# Altium schematic symbol library WE-SPXO.SchLib: 254 symbols (part 2 of 5)
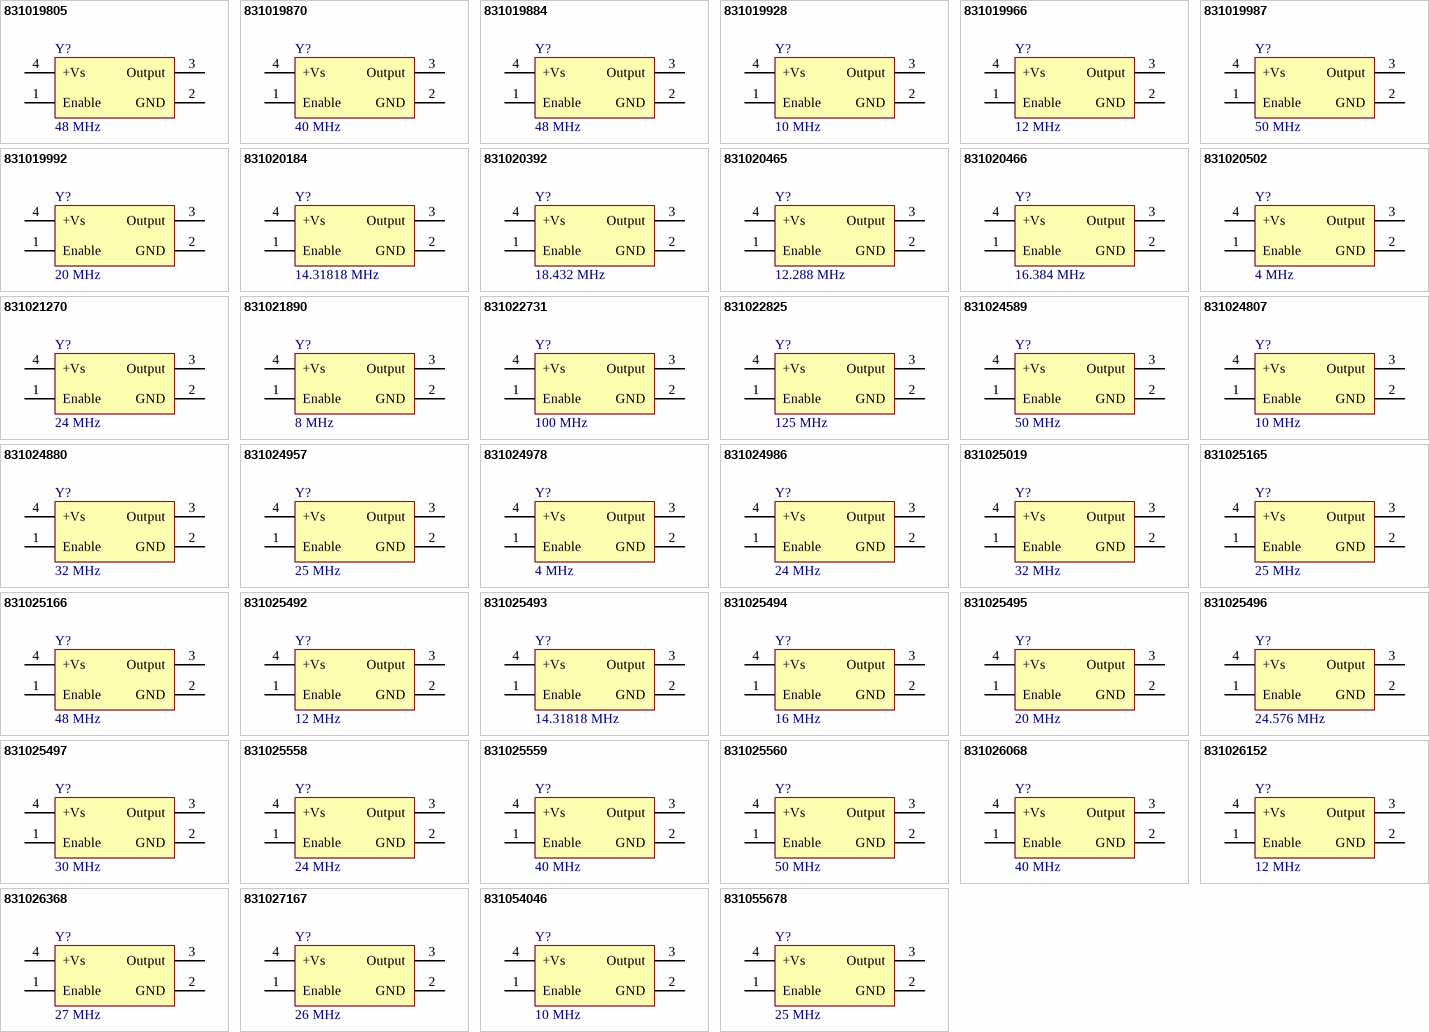
[diagram p7: symbols 831019805 to 831055678]

## 831024880
designator Y?, comment 32 MHz
WE-SPXO Simple Packaged Quartz Oscillator, CFPS-9, 32 MHz, 50 ppm, 3.3 V; Manufacturer Part Number: 831024880; Manufacturer: Wurth Elektronik; Frequency Stability: 50 ppm; Output Logic: CMOS; Supply Voltage: 3.3 V; Category: Oscillators; Match Code: WE-SPXO; ComponentLink1Description: Website Link; ComponentLink1URL: https://www.we-online.com/redexpert/article/831024880?ad; ComponentLink2Description: Datasheet Link; ComponentLink2URL: https://www.we-online.com/redexpert/spec/831024880?ad; Mount: Surface Mount; Min Operating Temperature: -40 °C; Max Operating Temperature: 85 °C; Packaging: Tape and Reel; Case/Size Code: CFPS-9; Length: 5 mm; Width: 3.2 mm; Height: 1.3 mm; Application: Processor, Bluetooth; Frequency: 32 MHz
footprint WE-SPXO_CFPS-9
pins: 1 Enable, 2 GND, 3 Output, 4 +Vs

## 831024957
designator Y?, comment 25 MHz
WE-SPXO Simple Packaged Quartz Oscillator, CFPS-9, 25 MHz, 50 ppm, 3.3 V; Manufacturer Part Number: 831024957; Manufacturer: Wurth Elektronik; Frequency Stability: 50 ppm; Output Logic: CMOS; Supply Voltage: 3.3 V; Category: Oscillators; Match Code: WE-SPXO; ComponentLink1Description: Website Link; ComponentLink1URL: https://www.we-online.com/redexpert/article/831024957?ad; ComponentLink2Description: Datasheet Link; ComponentLink2URL: https://www.we-online.com/redexpert/spec/831024957?ad; Mount: Surface Mount; Min Operating Temperature: -40 °C; Max Operating Temperature: 85 °C; Packaging: Tape and Reel; Case/Size Code: CFPS-9; Length: 5 mm; Width: 3.2 mm; Height: 1.3 mm; Application: Processor, USB, 3G/4G/5G, Ethernet, Small Cell, PHY, PCI Express; Frequency: 25 MHz
footprint WE-SPXO_CFPS-9
pins: 1 Enable, 2 GND, 3 Output, 4 +Vs

## 831024978
designator Y?, comment 4 MHz
WE-SPXO Simple Packaged Quartz Oscillator, CFPS-9, 4 MHz, 50 ppm, 3.3 V; Manufacturer Part Number: 831024978; Manufacturer: Wurth Elektronik; Frequency Stability: 50 ppm; Output Logic: CMOS; Supply Voltage: 3.3 V; Category: Oscillators; Match Code: WE-SPXO; ComponentLink1Description: Website Link; ComponentLink1URL: https://www.we-online.com/redexpert/article/831024978?ad; ComponentLink2Description: Datasheet Link; ComponentLink2URL: https://www.we-online.com/redexpert/spec/831024978?ad; Mount: Surface Mount; Min Operating Temperature: -40 °C; Max Operating Temperature: 85 °C; Packaging: Tape and Reel; Case/Size Code: CFPS-9; Length: 5 mm; Width: 3.2 mm; Height: 1.3 mm; Application: CAN, Processor; Frequency: 4 MHz
footprint WE-SPXO_CFPS-9
pins: 1 Enable, 2 GND, 3 Output, 4 +Vs

## 831024986
designator Y?, comment 24 MHz
WE-SPXO Simple Packaged Quartz Oscillator, CFPS-9, 24 MHz, 50 ppm, 3.3 V; Manufacturer Part Number: 831024986; Manufacturer: Wurth Elektronik; Frequency Stability: 50 ppm; Output Logic: CMOS; Supply Voltage: 3.3 V; Category: Oscillators; Match Code: WE-SPXO; ComponentLink1Description: Website Link; ComponentLink1URL: https://www.we-online.com/redexpert/article/831024986?ad; ComponentLink2Description: Datasheet Link; ComponentLink2URL: https://www.we-online.com/redexpert/spec/831024986?ad; Mount: Surface Mount; Min Operating Temperature: -40 °C; Max Operating Temperature: 85 °C; Packaging: Tape and Reel; Case/Size Code: CFPS-9; Length: 5 mm; Width: 3.2 mm; Height: 1.3 mm; Application: Processor, USB, Bluetooth; Frequency: 24 MHz
footprint WE-SPXO_CFPS-9
pins: 1 Enable, 2 GND, 3 Output, 4 +Vs

## 831025019
designator Y?, comment 32 MHz
WE-SPXO Simple Packaged Quartz Oscillator, CFPS-39, 32 MHz, 50 ppm, 3.3 V; Manufacturer Part Number: 831025019; Manufacturer: Wurth Elektronik; Frequency Stability: 50 ppm; Output Logic: CMOS; Supply Voltage: 3.3 V; Category: Oscillators; Match Code: WE-SPXO; ComponentLink1Description: Website Link; ComponentLink1URL: https://www.we-online.com/redexpert/article/831025019?ad; ComponentLink2Description: Datasheet Link; ComponentLink2URL: https://www.we-online.com/redexpert/spec/831025019?ad; Mount: Surface Mount; Min Operating Temperature: -40 °C; Max Operating Temperature: 85 °C; Packaging: Tape and Reel; Case/Size Code: CFPS-39; Length: 3.2 mm; Width: 2.5 mm; Height: 1.2 mm; Application: Processor, Bluetooth; Frequency: 32 MHz
footprint WE-SPXO_CFPS-39
pins: 1 Enable, 2 GND, 3 Output, 4 +Vs

## 831025165
designator Y?, comment 25 MHz
WE-SPXO Simple Packaged Quartz Oscillator, CFPS-39, 25 MHz, 50 ppm, 3.3 V; Manufacturer Part Number: 831025165; Manufacturer: Wurth Elektronik; Frequency Stability: 50 ppm; Output Logic: CMOS; Supply Voltage: 3.3 V; Category: Oscillators; Match Code: WE-SPXO; ComponentLink1Description: Website Link; ComponentLink1URL: https://www.we-online.com/redexpert/article/831025165?ad; ComponentLink2Description: Datasheet Link; ComponentLink2URL: https://www.we-online.com/redexpert/spec/831025165?ad; Mount: Surface Mount; Min Operating Temperature: -40 °C; Max Operating Temperature: 85 °C; Packaging: Tape and Reel; Case/Size Code: CFPS-39; Length: 3.2 mm; Width: 2.5 mm; Height: 1.2 mm; Application: Processor, USB, 3G/4G/5G, Ethernet, Small Cell, PHY, PCI Express; Frequency: 25 MHz
footprint WE-SPXO_CFPS-39
pins: 1 Enable, 2 GND, 3 Output, 4 +Vs

## 831025166
designator Y?, comment 48 MHz
WE-SPXO Simple Packaged Quartz Oscillator, CFPS-39, 48 MHz, 50 ppm, 3.3 V; Manufacturer Part Number: 831025166; Manufacturer: Wurth Elektronik; Frequency Stability: 50 ppm; Output Logic: CMOS; Supply Voltage: 3.3 V; Category: Oscillators; Match Code: WE-SPXO; ComponentLink1Description: Website Link; ComponentLink1URL: https://www.we-online.com/redexpert/article/831025166?ad; ComponentLink2Description: Datasheet Link; ComponentLink2URL: https://www.we-online.com/redexpert/spec/831025166?ad; Mount: Surface Mount; Min Operating Temperature: -40 °C; Max Operating Temperature: 85 °C; Packaging: Tape and Reel; Case/Size Code: CFPS-39; Length: 3.2 mm; Width: 2.5 mm; Height: 1.2 mm; Application: Processor, USB, Wi-Fi; Frequency: 48 MHz
footprint WE-SPXO_CFPS-39
pins: 1 Enable, 2 GND, 3 Output, 4 +Vs

## 831025492
designator Y?, comment 12 MHz
WE-SPXO Simple Packaged Quartz Oscillator, CFPS-39, 12 MHz, 50 ppm, 3.3 V; Manufacturer Part Number: 831025492; Manufacturer: Wurth Elektronik; Frequency Stability: 50 ppm; Output Logic: CMOS; Supply Voltage: 3.3 V; Category: Oscillators; Match Code: WE-SPXO; ComponentLink1Description: Website Link; ComponentLink1URL: https://www.we-online.com/redexpert/article/831025492?ad; ComponentLink2Description: Datasheet Link; ComponentLink2URL: https://www.we-online.com/redexpert/spec/831025492?ad; Mount: Surface Mount; Min Operating Temperature: -40 °C; Max Operating Temperature: 85 °C; Packaging: Tape and Reel; Case/Size Code: CFPS-39; Length: 3.2 mm; Width: 2.5 mm; Height: 1.2 mm; Application: Processor, USB, CAN; Frequency: 12 MHz
footprint WE-SPXO_CFPS-39
pins: 1 Enable, 2 GND, 3 Output, 4 +Vs

## 831025493
designator Y?, comment 14.31818 MHz
WE-SPXO Simple Packaged Quartz Oscillator, CFPS-39, 14.31818 MHz, 50 ppm, 3.3 V; Manufacturer Part Number: 831025493; Manufacturer: Wurth Elektronik; Frequency Stability: 50 ppm; Output Logic: CMOS; Supply Voltage: 3.3 V; Category: Oscillators; Match Code: WE-SPXO; ComponentLink1Description: Website Link; ComponentLink1URL: https://www.we-online.com/redexpert/article/831025493?ad; ComponentLink2Description: Datasheet Link; ComponentLink2URL: https://www.we-online.com/redexpert/spec/831025493?ad; Mount: Surface Mount; Min Operating Temperature: -40 °C; Max Operating Temperature: 85 °C; Packaging: Tape and Reel; Case/Size Code: CFPS-39; Length: 3.2 mm; Width: 2.5 mm; Height: 1.2 mm; Application: Processor; Frequency: 14.31818 MHz
footprint WE-SPXO_CFPS-39
pins: 1 Enable, 2 GND, 3 Output, 4 +Vs

## 831025494
designator Y?, comment 16 MHz
WE-SPXO Simple Packaged Quartz Oscillator, CFPS-39, 16 MHz, 50 ppm, 3.3 V; Manufacturer Part Number: 831025494; Manufacturer: Wurth Elektronik; Frequency Stability: 50 ppm; Output Logic: CMOS; Supply Voltage: 3.3 V; Category: Oscillators; Match Code: WE-SPXO; ComponentLink1Description: Website Link; ComponentLink1URL: https://www.we-online.com/redexpert/article/831025494?ad; ComponentLink2Description: Datasheet Link; ComponentLink2URL: https://www.we-online.com/redexpert/spec/831025494?ad; Mount: Surface Mount; Min Operating Temperature: -40 °C; Max Operating Temperature: 85 °C; Packaging: Tape and Reel; Case/Size Code: CFPS-39; Length: 3.2 mm; Width: 2.5 mm; Height: 1.2 mm; Application: Processor, CAN, Bluetooth; Frequency: 16 MHz
footprint WE-SPXO_CFPS-39
pins: 1 Enable, 2 GND, 3 Output, 4 +Vs

## 831025495
designator Y?, comment 20 MHz
WE-SPXO Simple Packaged Quartz Oscillator, CFPS-39, 20 MHz, 50 ppm, 3.3 V; Manufacturer Part Number: 831025495; Manufacturer: Wurth Elektronik; Frequency Stability: 50 ppm; Output Logic: CMOS; Supply Voltage: 3.3 V; Category: Oscillators; Match Code: WE-SPXO; ComponentLink1Description: Website Link; ComponentLink1URL: https://www.we-online.com/redexpert/article/831025495?ad; ComponentLink2Description: Datasheet Link; ComponentLink2URL: https://www.we-online.com/redexpert/spec/831025495?ad; Mount: Surface Mount; Min Operating Temperature: -40 °C; Max Operating Temperature: 85 °C; Packaging: Tape and Reel; Case/Size Code: CFPS-39; Length: 3.2 mm; Width: 2.5 mm; Height: 1.2 mm; Application: Processor, CAN, USB, Ethernet, Wi-Fi; Frequency: 20 MHz
footprint WE-SPXO_CFPS-39
pins: 1 Enable, 2 GND, 3 Output, 4 +Vs

## 831025496
designator Y?, comment 24.576 MHz
WE-SPXO Simple Packaged Quartz Oscillator, CFPS-39, 24.576 MHz, 50 ppm, 3.3 V; Manufacturer Part Number: 831025496; Manufacturer: Wurth Elektronik; Frequency Stability: 50 ppm; Output Logic: CMOS; Supply Voltage: 3.3 V; Category: Oscillators; Match Code: WE-SPXO; ComponentLink1Description: Website Link; ComponentLink1URL: https://www.we-online.com/redexpert/article/831025496?ad; ComponentLink2Description: Datasheet Link; ComponentLink2URL: https://www.we-online.com/redexpert/spec/831025496?ad; Mount: Surface Mount; Min Operating Temperature: -40 °C; Max Operating Temperature: 85 °C; Packaging: Tape and Reel; Case/Size Code: CFPS-39; Length: 3.2 mm; Width: 2.5 mm; Height: 1.2 mm; Application: UART, Audio; Frequency: 24.576 MHz
footprint WE-SPXO_CFPS-39
pins: 1 Enable, 2 GND, 3 Output, 4 +Vs

## 831025497
designator Y?, comment 30 MHz
WE-SPXO Simple Packaged Quartz Oscillator, CFPS-39, 30 MHz, 50 ppm, 3.3 V; Manufacturer Part Number: 831025497; Manufacturer: Wurth Elektronik; Frequency Stability: 50 ppm; Output Logic: CMOS; Supply Voltage: 3.3 V; Category: Oscillators; Match Code: WE-SPXO; ComponentLink1Description: Website Link; ComponentLink1URL: https://www.we-online.com/redexpert/article/831025497?ad; ComponentLink2Description: Datasheet Link; ComponentLink2URL: https://www.we-online.com/redexpert/spec/831025497?ad; Mount: Surface Mount; Min Operating Temperature: -40 °C; Max Operating Temperature: 85 °C; Packaging: Tape and Reel; Case/Size Code: CFPS-39; Length: 3.2 mm; Width: 2.5 mm; Height: 1.2 mm; Application: Processor, USB; Frequency: 30 MHz
footprint WE-SPXO_CFPS-39
pins: 1 Enable, 2 GND, 3 Output, 4 +Vs

## 831025558
designator Y?, comment 24 MHz
WE-SPXO Simple Packaged Quartz Oscillator, CFPS-39, 24 MHz, 50 ppm, 3.3 V; Manufacturer Part Number: 831025558; Manufacturer: Wurth Elektronik; Frequency Stability: 50 ppm; Output Logic: CMOS; Supply Voltage: 3.3 V; Category: Oscillators; Match Code: WE-SPXO; ComponentLink1Description: Website Link; ComponentLink1URL: https://www.we-online.com/redexpert/article/831025558?ad; ComponentLink2Description: Datasheet Link; ComponentLink2URL: https://www.we-online.com/redexpert/spec/831025558?ad; Mount: Surface Mount; Min Operating Temperature: -40 °C; Max Operating Temperature: 85 °C; Packaging: Tape and Reel; Case/Size Code: CFPS-39; Length: 3.2 mm; Width: 2.5 mm; Height: 1.2 mm; Application: Processor, USB, Bluetooth; Frequency: 24 MHz
footprint WE-SPXO_CFPS-39
pins: 1 Enable, 2 GND, 3 Output, 4 +Vs

## 831025559
designator Y?, comment 40 MHz
WE-SPXO Simple Packaged Quartz Oscillator, CFPS-39, 40 MHz, 50 ppm, 3.3 V; Manufacturer Part Number: 831025559; Manufacturer: Wurth Elektronik; Frequency Stability: 50 ppm; Output Logic: CMOS; Supply Voltage: 3.3 V; Category: Oscillators; Match Code: WE-SPXO; ComponentLink1Description: Website Link; ComponentLink1URL: https://www.we-online.com/redexpert/article/831025559?ad; ComponentLink2Description: Datasheet Link; ComponentLink2URL: https://www.we-online.com/redexpert/spec/831025559?ad; Mount: Surface Mount; Min Operating Temperature: -40 °C; Max Operating Temperature: 85 °C; Packaging: Tape and Reel; Case/Size Code: CFPS-39; Length: 3.2 mm; Width: 2.5 mm; Height: 1.2 mm; Application: Processor, USB, 3G/4G/5G, CAN, Wi-Fi; Frequency: 40 MHz
footprint WE-SPXO_CFPS-39
pins: 1 Enable, 2 GND, 3 Output, 4 +Vs

## 831025560
designator Y?, comment 50 MHz
WE-SPXO Simple Packaged Quartz Oscillator, CFPS-39, 50 MHz, 50 ppm, 3.3 V; Manufacturer Part Number: 831025560; Manufacturer: Wurth Elektronik; Frequency Stability: 50 ppm; Output Logic: CMOS; Supply Voltage: 3.3 V; Category: Oscillators; Match Code: WE-SPXO; ComponentLink1Description: Website Link; ComponentLink1URL: https://www.we-online.com/redexpert/article/831025560?ad; ComponentLink2Description: Datasheet Link; ComponentLink2URL: https://www.we-online.com/redexpert/spec/831025560?ad; Mount: Surface Mount; Min Operating Temperature: -40 °C; Max Operating Temperature: 85 °C; Packaging: Tape and Reel; Case/Size Code: CFPS-39; Length: 3.2 mm; Width: 2.5 mm; Height: 1.2 mm; Application: Processor, Ethernet, PCI Express, PHY; Frequency: 50 MHz
footprint WE-SPXO_CFPS-39
pins: 1 Enable, 2 GND, 3 Output, 4 +Vs

## 831026068
designator Y?, comment 40 MHz
WE-SPXO Simple Packaged Quartz Oscillator, CFPS-9, 40 MHz, 50 ppm, 3.3 V; Manufacturer Part Number: 831026068; Manufacturer: Wurth Elektronik; Frequency Stability: 50 ppm; Output Logic: CMOS; Supply Voltage: 3.3 V; Category: Oscillators; Match Code: WE-SPXO; ComponentLink1Description: Website Link; ComponentLink1URL: https://www.we-online.com/redexpert/article/831026068?ad; ComponentLink2Description: Datasheet Link; ComponentLink2URL: https://www.we-online.com/redexpert/spec/831026068?ad; Mount: Surface Mount; Min Operating Temperature: -40 °C; Max Operating Temperature: 85 °C; Packaging: Tape and Reel; Case/Size Code: CFPS-9; Length: 5 mm; Width: 3.2 mm; Height: 1.3 mm; Application: Processor, USB, 3G/4G/5G, CAN, Wi-Fi; Frequency: 40 MHz
footprint WE-SPXO_CFPS-9
pins: 1 Enable, 2 GND, 3 Output, 4 +Vs

## 831026152
designator Y?, comment 12 MHz
WE-SPXO Simple Packaged Quartz Oscillator, CFPS-9, 12 MHz, 50 ppm, 3.3 V; Manufacturer Part Number: 831026152; Manufacturer: Wurth Elektronik; Frequency Stability: 50 ppm; Output Logic: CMOS; Supply Voltage: 3.3 V; Category: Oscillators; Match Code: WE-SPXO; ComponentLink1Description: Website Link; ComponentLink1URL: https://www.we-online.com/redexpert/article/831026152?ad; ComponentLink2Description: Datasheet Link; ComponentLink2URL: https://www.we-online.com/redexpert/spec/831026152?ad; Mount: Surface Mount; Min Operating Temperature: -40 °C; Max Operating Temperature: 85 °C; Packaging: Tape and Reel; Case/Size Code: CFPS-9; Length: 5 mm; Width: 3.2 mm; Height: 1.3 mm; Application: Processor, USB, CAN; Frequency: 12 MHz
footprint WE-SPXO_CFPS-9
pins: 1 Enable, 2 GND, 3 Output, 4 +Vs

## 831026368
designator Y?, comment 27 MHz
WE-SPXO Simple Packaged Quartz Oscillator, CFPS-39, 27 MHz, 50 ppm, 3.3 V; Manufacturer Part Number: 831026368; Manufacturer: Wurth Elektronik; Frequency Stability: 50 ppm; Output Logic: CMOS; Supply Voltage: 3.3 V; Category: Oscillators; Match Code: WE-SPXO; ComponentLink1Description: Website Link; ComponentLink1URL: https://www.we-online.com/redexpert/article/831026368?ad; ComponentLink2Description: Datasheet Link; ComponentLink2URL: https://www.we-online.com/redexpert/spec/831026368?ad; Mount: Surface Mount; Min Operating Temperature: -40 °C; Max Operating Temperature: 85 °C; Packaging: Tape and Reel; Case/Size Code: CFPS-39; Length: 3.2 mm; Width: 2.5 mm; Height: 1.2 mm; Application: Processor; Frequency: 27 MHz
footprint WE-SPXO_CFPS-39
pins: 1 Enable, 2 GND, 3 Output, 4 +Vs

## 831027167
designator Y?, comment 26 MHz
WE-SPXO Simple Packaged Quartz Oscillator, CFPS-39, 26 MHz, 50 ppm, 3.3 V; Manufacturer Part Number: 831027167; Manufacturer: Wurth Elektronik; Frequency Stability: 50 ppm; Output Logic: CMOS; Supply Voltage: 3.3 V; Category: Oscillators; Match Code: WE-SPXO; ComponentLink1Description: Website Link; ComponentLink1URL: https://www.we-online.com/redexpert/article/831027167?ad; ComponentLink2Description: Datasheet Link; ComponentLink2URL: https://www.we-online.com/redexpert/spec/831027167?ad; Mount: Surface Mount; Min Operating Temperature: -40 °C; Max Operating Temperature: 85 °C; Packaging: Tape and Reel; Case/Size Code: CFPS-39; Length: 3.2 mm; Width: 2.5 mm; Height: 1.2 mm; Application: CAN, Bluetooth, GPS, Small Cell; Frequency: 26 MHz
footprint WE-SPXO_CFPS-39
pins: 1 Enable, 2 GND, 3 Output, 4 +Vs

## 831054046
designator Y?, comment 10 MHz
WE-SPXO Simple Packaged Quartz Oscillator, IQXO-540, 10 MHz, 50 ppm, 3.3 V; Manufacturer Part Number: 831054046; Manufacturer: Wurth Elektronik; Frequency Stability: 50 ppm; Output Logic: CMOS; Supply Voltage: 3.3 V; Category: Oscillators; Match Code: WE-SPXO; ComponentLink1Description: Website Link; ComponentLink1URL: https://www.we-online.com/redexpert/article/831054046?ad; ComponentLink2Description: Datasheet Link; ComponentLink2URL: https://www.we-online.com/redexpert/spec/831054046?ad; Mount: Surface Mount; Min Operating Temperature: -40 °C; Max Operating Temperature: 85 °C; Packaging: Tape and Reel; Case/Size Code: IQXO-540; Length: 2 mm; Width: 1.6 mm; Height: 0.8 mm; Application: Processor, Ethernet; Frequency: 10 MHz
footprint WE-SPXO_IQXO-540
pins: 1 Enable, 2 GND, 3 Output, 4 +Vs

## 831055678
designator Y?, comment 25 MHz
WE-SPXO Simple Packaged Quartz Oscillator, CFPS-39, 25 MHz, 25 ppm, 3.3 V; Manufacturer Part Number: 831055678; Manufacturer: Wurth Elektronik; Frequency Stability: 25 ppm; Output Logic: CMOS; Supply Voltage: 3.3 V; Category: Oscillators; Match Code: WE-SPXO; ComponentLink1Description: Website Link; ComponentLink1URL: https://www.we-online.com/redexpert/article/831055678?ad; ComponentLink2Description: Datasheet Link; ComponentLink2URL: https://www.we-online.com/redexpert/spec/831055678?ad; Mount: Surface Mount; Min Operating Temperature: -40 °C; Max Operating Temperature: 85 °C; Packaging: Tape and Reel; Case/Size Code: CFPS-39; Length: 3.2 mm; Width: 2.5 mm; Height: 1.2 mm; Application: Processor, USB, 3G/4G/5G, Ethernet, Small Cell, PHY, PCI Express; Frequency: 25 MHz
footprint WE-SPXO_CFPS-39
pins: 1 Enable, 2 GND, 3 Output, 4 +Vs

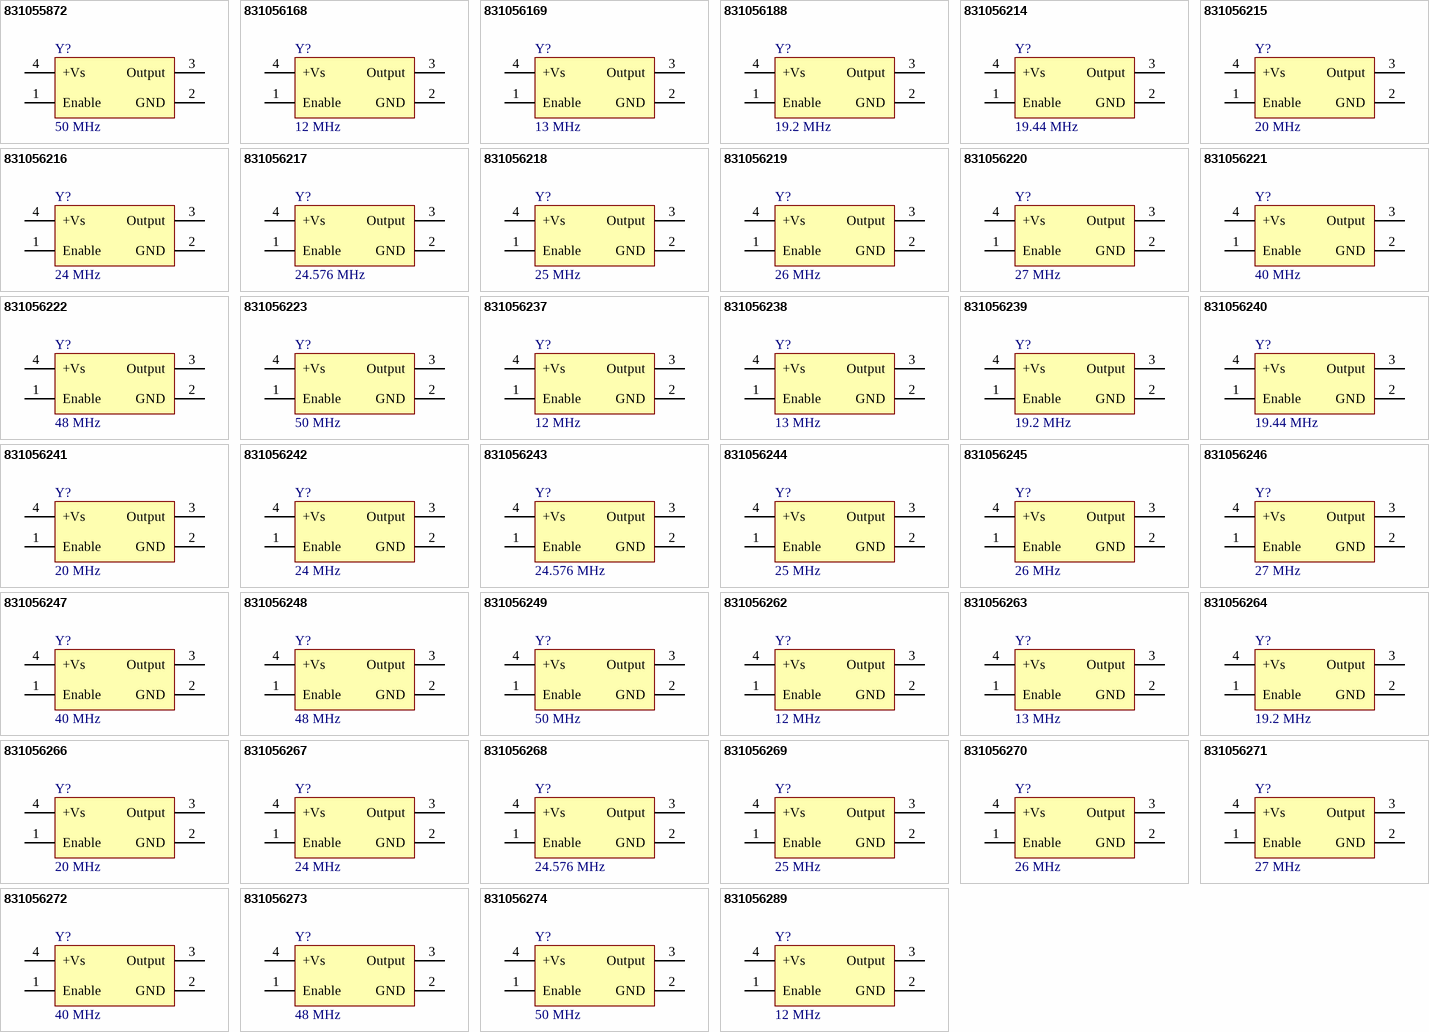
[diagram p2: symbols 831055872 to 831056289]

## 831055872
designator Y?, comment 50 MHz
WE-SPXO Simple Packaged Quartz Oscillator, CFPS-39, 50 MHz, 25 ppm, 3.3 V; Manufacturer Part Number: 831055872; Manufacturer: Wurth Elektronik; Frequency Stability: 25 ppm; Output Logic: CMOS; Supply Voltage: 3.3 V; Category: Oscillators; Match Code: WE-SPXO; ComponentLink1Description: Website Link; ComponentLink1URL: https://www.we-online.com/redexpert/article/831055872?ad; ComponentLink2Description: Datasheet Link; ComponentLink2URL: https://www.we-online.com/redexpert/spec/831055872?ad; Mount: Surface Mount; Min Operating Temperature: -40 °C; Max Operating Temperature: 85 °C; Packaging: Tape and Reel; Case/Size Code: CFPS-39; Length: 3.2 mm; Width: 2.5 mm; Height: 1.2 mm; Application: Processor, Ethernet, PCI Express, PHY; Frequency: 50 MHz
footprint WE-SPXO_CFPS-39
pins: 1 Enable, 2 GND, 3 Output, 4 +Vs

## 831056168
designator Y?, comment 12 MHz
WE-SPXO Simple Packaged Quartz Oscillator, IQXO-542, 12 MHz, 50 ppm, 1.8 V; Manufacturer Part Number: 831056168; Manufacturer: Wurth Elektronik; Frequency Stability: 50 ppm; Output Logic: CMOS; Supply Voltage: 1.8 V; Category: Oscillators; Match Code: WE-SPXO; ComponentLink1Description: Website Link; ComponentLink1URL: https://www.we-online.com/redexpert/article/831056168?ad; ComponentLink2Description: Datasheet Link; ComponentLink2URL: https://www.we-online.com/redexpert/spec/831056168?ad; Mount: Surface Mount; Min Operating Temperature: -40 °C; Max Operating Temperature: 85 °C; Packaging: Tape and Reel; Case/Size Code: IQXO-542; Length: 2 mm; Width: 1.6 mm; Height: 0.8 mm; Application: Processor, USB, CAN; Frequency: 12 MHz
footprint WE-SPXO_IQXO-542
pins: 1 Enable, 2 GND, 3 Output, 4 +Vs

## 831056169
designator Y?, comment 13 MHz
WE-SPXO Simple Packaged Quartz Oscillator, IQXO-542, 13 MHz, 50 ppm, 1.8 V; Manufacturer Part Number: 831056169; Manufacturer: Wurth Elektronik; Frequency Stability: 50 ppm; Output Logic: CMOS; Supply Voltage: 1.8 V; Category: Oscillators; Match Code: WE-SPXO; ComponentLink1Description: Website Link; ComponentLink1URL: https://www.we-online.com/redexpert/article/831056169?ad; ComponentLink2Description: Datasheet Link; ComponentLink2URL: https://www.we-online.com/redexpert/spec/831056169?ad; Mount: Surface Mount; Min Operating Temperature: -40 °C; Max Operating Temperature: 85 °C; Packaging: Tape and Reel; Case/Size Code: IQXO-542; Length: 2 mm; Width: 1.6 mm; Height: 0.8 mm; Application: Processor; Frequency: 13 MHz
footprint WE-SPXO_IQXO-542
pins: 1 Enable, 2 GND, 3 Output, 4 +Vs

## 831056188
designator Y?, comment 19.2 MHz
WE-SPXO Simple Packaged Quartz Oscillator, IQXO-542, 19.2 MHz, 50 ppm, 1.8 V; Manufacturer Part Number: 831056188; Manufacturer: Wurth Elektronik; Frequency Stability: 50 ppm; Output Logic: CMOS; Supply Voltage: 1.8 V; Category: Oscillators; Match Code: WE-SPXO; ComponentLink1Description: Website Link; ComponentLink1URL: https://www.we-online.com/redexpert/article/831056188?ad; ComponentLink2Description: Datasheet Link; ComponentLink2URL: https://www.we-online.com/redexpert/spec/831056188?ad; Mount: Surface Mount; Min Operating Temperature: -40 °C; Max Operating Temperature: 85 °C; Packaging: Tape and Reel; Case/Size Code: IQXO-542; Length: 2 mm; Width: 1.6 mm; Height: 0.8 mm; Application: UART, 3G/4G/5G, Small Cell; Frequency: 19.2 MHz
footprint WE-SPXO_IQXO-542
pins: 1 Enable, 2 GND, 3 Output, 4 +Vs

## 831056214
designator Y?, comment 19.44 MHz
WE-SPXO Simple Packaged Quartz Oscillator, IQXO-542, 19.44 MHz, 50 ppm, 1.8 V; Manufacturer Part Number: 831056214; Manufacturer: Wurth Elektronik; Frequency Stability: 50 ppm; Output Logic: CMOS; Supply Voltage: 1.8 V; Category: Oscillators; Match Code: WE-SPXO; ComponentLink1Description: Website Link; ComponentLink1URL: https://www.we-online.com/redexpert/article/831056214?ad; ComponentLink2Description: Datasheet Link; ComponentLink2URL: https://www.we-online.com/redexpert/spec/831056214?ad; Mount: Surface Mount; Min Operating Temperature: -40 °C; Max Operating Temperature: 85 °C; Packaging: Tape and Reel; Case/Size Code: IQXO-542; Length: 2 mm; Width: 1.6 mm; Height: 0.8 mm; Application: Bluetooth; Frequency: 19.44 MHz
footprint WE-SPXO_IQXO-542
pins: 1 Enable, 2 GND, 3 Output, 4 +Vs

## 831056215
designator Y?, comment 20 MHz
WE-SPXO Simple Packaged Quartz Oscillator, IQXO-542, 20 MHz, 50 ppm, 1.8 V; Manufacturer Part Number: 831056215; Manufacturer: Wurth Elektronik; Frequency Stability: 50 ppm; Output Logic: CMOS; Supply Voltage: 1.8 V; Category: Oscillators; Match Code: WE-SPXO; ComponentLink1Description: Website Link; ComponentLink1URL: https://www.we-online.com/redexpert/article/831056215?ad; ComponentLink2Description: Datasheet Link; ComponentLink2URL: https://www.we-online.com/redexpert/spec/831056215?ad; Mount: Surface Mount; Min Operating Temperature: -40 °C; Max Operating Temperature: 85 °C; Packaging: Tape and Reel; Case/Size Code: IQXO-542; Length: 2 mm; Width: 1.6 mm; Height: 0.8 mm; Application: Processor, CAN, USB, Ethernet, Wi-Fi; Frequency: 20 MHz
footprint WE-SPXO_IQXO-542
pins: 1 Enable, 2 GND, 3 Output, 4 +Vs

## 831056216
designator Y?, comment 24 MHz
WE-SPXO Simple Packaged Quartz Oscillator, IQXO-542, 24 MHz, 50 ppm, 1.8 V; Manufacturer Part Number: 831056216; Manufacturer: Wurth Elektronik; Frequency Stability: 50 ppm; Output Logic: CMOS; Supply Voltage: 1.8 V; Category: Oscillators; Match Code: WE-SPXO; ComponentLink1Description: Website Link; ComponentLink1URL: https://www.we-online.com/redexpert/article/831056216?ad; ComponentLink2Description: Datasheet Link; ComponentLink2URL: https://www.we-online.com/redexpert/spec/831056216?ad; Mount: Surface Mount; Min Operating Temperature: -40 °C; Max Operating Temperature: 85 °C; Packaging: Tape and Reel; Case/Size Code: IQXO-542; Length: 2 mm; Width: 1.6 mm; Height: 0.8 mm; Application: Processor, USB, Bluetooth; Frequency: 24 MHz
footprint WE-SPXO_IQXO-542
pins: 1 Enable, 2 GND, 3 Output, 4 +Vs

## 831056217
designator Y?, comment 24.576 MHz
WE-SPXO Simple Packaged Quartz Oscillator, IQXO-542, 24.576 MHz, 50 ppm, 1.8 V; Manufacturer Part Number: 831056217; Manufacturer: Wurth Elektronik; Frequency Stability: 50 ppm; Output Logic: CMOS; Supply Voltage: 1.8 V; Category: Oscillators; Match Code: WE-SPXO; ComponentLink1Description: Website Link; ComponentLink1URL: https://www.we-online.com/redexpert/article/831056217?ad; ComponentLink2Description: Datasheet Link; ComponentLink2URL: https://www.we-online.com/redexpert/spec/831056217?ad; Mount: Surface Mount; Min Operating Temperature: -40 °C; Max Operating Temperature: 85 °C; Packaging: Tape and Reel; Case/Size Code: IQXO-542; Length: 2 mm; Width: 1.6 mm; Height: 0.8 mm; Application: UART, Audio; Frequency: 24.576 MHz
footprint WE-SPXO_IQXO-542
pins: 1 Enable, 2 GND, 3 Output, 4 +Vs

## 831056218
designator Y?, comment 25 MHz
WE-SPXO Simple Packaged Quartz Oscillator, IQXO-542, 25 MHz, 50 ppm, 1.8 V; Manufacturer Part Number: 831056218; Manufacturer: Wurth Elektronik; Frequency Stability: 50 ppm; Output Logic: CMOS; Supply Voltage: 1.8 V; Category: Oscillators; Match Code: WE-SPXO; ComponentLink1Description: Website Link; ComponentLink1URL: https://www.we-online.com/redexpert/article/831056218?ad; ComponentLink2Description: Datasheet Link; ComponentLink2URL: https://www.we-online.com/redexpert/spec/831056218?ad; Mount: Surface Mount; Min Operating Temperature: -40 °C; Max Operating Temperature: 85 °C; Packaging: Tape and Reel; Case/Size Code: IQXO-542; Length: 2 mm; Width: 1.6 mm; Height: 0.8 mm; Application: Processor, USB, 3G/4G/5G, Ethernet, Small Cell, PHY, PCI Express; Frequency: 25 MHz
footprint WE-SPXO_IQXO-542
pins: 1 Enable, 2 GND, 3 Output, 4 +Vs

## 831056219
designator Y?, comment 26 MHz
WE-SPXO Simple Packaged Quartz Oscillator, IQXO-542, 26 MHz, 50 ppm, 1.8 V; Manufacturer Part Number: 831056219; Manufacturer: Wurth Elektronik; Frequency Stability: 50 ppm; Output Logic: CMOS; Supply Voltage: 1.8 V; Category: Oscillators; Match Code: WE-SPXO; ComponentLink1Description: Website Link; ComponentLink1URL: https://www.we-online.com/redexpert/article/831056219?ad; ComponentLink2Description: Datasheet Link; ComponentLink2URL: https://www.we-online.com/redexpert/spec/831056219?ad; Mount: Surface Mount; Min Operating Temperature: -40 °C; Max Operating Temperature: 85 °C; Packaging: Tape and Reel; Case/Size Code: IQXO-542; Length: 2 mm; Width: 1.6 mm; Height: 0.8 mm; Application: CAN, Bluetooth, GPS, Small Cell; Frequency: 26 MHz
footprint WE-SPXO_IQXO-542
pins: 1 Enable, 2 GND, 3 Output, 4 +Vs

## 831056220
designator Y?, comment 27 MHz
WE-SPXO Simple Packaged Quartz Oscillator, IQXO-542, 27 MHz, 50 ppm, 1.8 V; Manufacturer Part Number: 831056220; Manufacturer: Wurth Elektronik; Frequency Stability: 50 ppm; Output Logic: CMOS; Supply Voltage: 1.8 V; Category: Oscillators; Match Code: WE-SPXO; ComponentLink1Description: Website Link; ComponentLink1URL: https://www.we-online.com/redexpert/article/831056220?ad; ComponentLink2Description: Datasheet Link; ComponentLink2URL: https://www.we-online.com/redexpert/spec/831056220?ad; Mount: Surface Mount; Min Operating Temperature: -40 °C; Max Operating Temperature: 85 °C; Packaging: Tape and Reel; Case/Size Code: IQXO-542; Length: 2 mm; Width: 1.6 mm; Height: 0.8 mm; Application: Processor; Frequency: 27 MHz
footprint WE-SPXO_IQXO-542
pins: 1 Enable, 2 GND, 3 Output, 4 +Vs

## 831056221
designator Y?, comment 40 MHz
WE-SPXO Simple Packaged Quartz Oscillator, IQXO-542, 40 MHz, 50 ppm, 1.8 V; Manufacturer Part Number: 831056221; Manufacturer: Wurth Elektronik; Frequency Stability: 50 ppm; Output Logic: CMOS; Supply Voltage: 1.8 V; Category: Oscillators; Match Code: WE-SPXO; ComponentLink1Description: Website Link; ComponentLink1URL: https://www.we-online.com/redexpert/article/831056221?ad; ComponentLink2Description: Datasheet Link; ComponentLink2URL: https://www.we-online.com/redexpert/spec/831056221?ad; Mount: Surface Mount; Min Operating Temperature: -40 °C; Max Operating Temperature: 85 °C; Packaging: Tape and Reel; Case/Size Code: IQXO-542; Length: 2 mm; Width: 1.6 mm; Height: 0.8 mm; Application: Processor, USB, 3G/4G/5G, CAN, Wi-Fi; Frequency: 40 MHz
footprint WE-SPXO_IQXO-542
pins: 1 Enable, 2 GND, 3 Output, 4 +Vs

## 831056222
designator Y?, comment 48 MHz
WE-SPXO Simple Packaged Quartz Oscillator, IQXO-542, 48 MHz, 50 ppm, 1.8 V; Manufacturer Part Number: 831056222; Manufacturer: Wurth Elektronik; Frequency Stability: 50 ppm; Output Logic: CMOS; Supply Voltage: 1.8 V; Category: Oscillators; Match Code: WE-SPXO; ComponentLink1Description: Website Link; ComponentLink1URL: https://www.we-online.com/redexpert/article/831056222?ad; ComponentLink2Description: Datasheet Link; ComponentLink2URL: https://www.we-online.com/redexpert/spec/831056222?ad; Mount: Surface Mount; Min Operating Temperature: -40 °C; Max Operating Temperature: 85 °C; Packaging: Tape and Reel; Case/Size Code: IQXO-542; Length: 2 mm; Width: 1.6 mm; Height: 0.8 mm; Application: Processor, USB, Wi-Fi; Frequency: 48 MHz
footprint WE-SPXO_IQXO-542
pins: 1 Enable, 2 GND, 3 Output, 4 +Vs

## 831056223
designator Y?, comment 50 MHz
WE-SPXO Simple Packaged Quartz Oscillator, IQXO-542, 50 MHz, 50 ppm, 1.8 V; Manufacturer Part Number: 831056223; Manufacturer: Wurth Elektronik; Frequency Stability: 50 ppm; Output Logic: CMOS; Supply Voltage: 1.8 V; Category: Oscillators; Match Code: WE-SPXO; ComponentLink1Description: Website Link; ComponentLink1URL: https://www.we-online.com/redexpert/article/831056223?ad; ComponentLink2Description: Datasheet Link; ComponentLink2URL: https://www.we-online.com/redexpert/spec/831056223?ad; Mount: Surface Mount; Min Operating Temperature: -40 °C; Max Operating Temperature: 85 °C; Packaging: Tape and Reel; Case/Size Code: IQXO-542; Length: 2 mm; Width: 1.6 mm; Height: 0.8 mm; Application: Processor, Ethernet, PCI Express, PHY; Frequency: 50 MHz
footprint WE-SPXO_IQXO-542
pins: 1 Enable, 2 GND, 3 Output, 4 +Vs

## 831056237
designator Y?, comment 12 MHz
WE-SPXO Simple Packaged Quartz Oscillator, IQXO-540, 12 MHz, 50 ppm, 3.3 V; Manufacturer Part Number: 831056237; Manufacturer: Wurth Elektronik; Frequency Stability: 50 ppm; Output Logic: CMOS; Supply Voltage: 3.3 V; Category: Oscillators; Match Code: WE-SPXO; ComponentLink1Description: Website Link; ComponentLink1URL: https://www.we-online.com/redexpert/article/831056237?ad; ComponentLink2Description: Datasheet Link; ComponentLink2URL: https://www.we-online.com/redexpert/spec/831056237?ad; Mount: Surface Mount; Min Operating Temperature: -40 °C; Max Operating Temperature: 85 °C; Packaging: Tape and Reel; Case/Size Code: IQXO-540; Length: 2 mm; Width: 1.6 mm; Height: 0.8 mm; Application: Processor, USB, CAN; Frequency: 12 MHz
footprint WE-SPXO_IQXO-540
pins: 1 Enable, 2 GND, 3 Output, 4 +Vs

## 831056238
designator Y?, comment 13 MHz
WE-SPXO Simple Packaged Quartz Oscillator, IQXO-540, 13 MHz, 50 ppm, 3.3 V; Manufacturer Part Number: 831056238; Manufacturer: Wurth Elektronik; Frequency Stability: 50 ppm; Output Logic: CMOS; Supply Voltage: 3.3 V; Category: Oscillators; Match Code: WE-SPXO; ComponentLink1Description: Website Link; ComponentLink1URL: https://www.we-online.com/redexpert/article/831056238?ad; ComponentLink2Description: Datasheet Link; ComponentLink2URL: https://www.we-online.com/redexpert/spec/831056238?ad; Mount: Surface Mount; Min Operating Temperature: -40 °C; Max Operating Temperature: 85 °C; Packaging: Tape and Reel; Case/Size Code: IQXO-540; Length: 2 mm; Width: 1.6 mm; Height: 0.8 mm; Application: Processor; Frequency: 13 MHz
footprint WE-SPXO_IQXO-540
pins: 1 Enable, 2 GND, 3 Output, 4 +Vs

## 831056239
designator Y?, comment 19.2 MHz
WE-SPXO Simple Packaged Quartz Oscillator, IQXO-540, 19.2 MHz, 50 ppm, 3.3 V; Manufacturer Part Number: 831056239; Manufacturer: Wurth Elektronik; Frequency Stability: 50 ppm; Output Logic: CMOS; Supply Voltage: 3.3 V; Category: Oscillators; Match Code: WE-SPXO; ComponentLink1Description: Website Link; ComponentLink1URL: https://www.we-online.com/redexpert/article/831056239?ad; ComponentLink2Description: Datasheet Link; ComponentLink2URL: https://www.we-online.com/redexpert/spec/831056239?ad; Mount: Surface Mount; Min Operating Temperature: -40 °C; Max Operating Temperature: 85 °C; Packaging: Tape and Reel; Case/Size Code: IQXO-540; Length: 2 mm; Width: 1.6 mm; Height: 0.8 mm; Application: UART, 3G/4G/5G, Small Cell; Frequency: 19.2 MHz
footprint WE-SPXO_IQXO-540
pins: 1 Enable, 2 GND, 3 Output, 4 +Vs

## 831056240
designator Y?, comment 19.44 MHz
WE-SPXO Simple Packaged Quartz Oscillator, IQXO-540, 19.44 MHz, 50 ppm, 3.3 V; Manufacturer Part Number: 831056240; Manufacturer: Wurth Elektronik; Frequency Stability: 50 ppm; Output Logic: CMOS; Supply Voltage: 3.3 V; Category: Oscillators; Match Code: WE-SPXO; ComponentLink1Description: Website Link; ComponentLink1URL: https://www.we-online.com/redexpert/article/831056240?ad; ComponentLink2Description: Datasheet Link; ComponentLink2URL: https://www.we-online.com/redexpert/spec/831056240?ad; Mount: Surface Mount; Min Operating Temperature: -40 °C; Max Operating Temperature: 85 °C; Packaging: Tape and Reel; Case/Size Code: IQXO-540; Length: 2 mm; Width: 1.6 mm; Height: 0.8 mm; Application: Bluetooth; Frequency: 19.44 MHz
footprint WE-SPXO_IQXO-540
pins: 1 Enable, 2 GND, 3 Output, 4 +Vs

## 831056241
designator Y?, comment 20 MHz
WE-SPXO Simple Packaged Quartz Oscillator, IQXO-540, 20 MHz, 50 ppm, 3.3 V; Manufacturer Part Number: 831056241; Manufacturer: Wurth Elektronik; Frequency Stability: 50 ppm; Output Logic: CMOS; Supply Voltage: 3.3 V; Category: Oscillators; Match Code: WE-SPXO; ComponentLink1Description: Website Link; ComponentLink1URL: https://www.we-online.com/redexpert/article/831056241?ad; ComponentLink2Description: Datasheet Link; ComponentLink2URL: https://www.we-online.com/redexpert/spec/831056241?ad; Mount: Surface Mount; Min Operating Temperature: -40 °C; Max Operating Temperature: 85 °C; Packaging: Tape and Reel; Case/Size Code: IQXO-540; Length: 2 mm; Width: 1.6 mm; Height: 0.8 mm; Application: Processor, CAN, USB, Ethernet, Wi-Fi; Frequency: 20 MHz
footprint WE-SPXO_IQXO-540
pins: 1 Enable, 2 GND, 3 Output, 4 +Vs

## 831056242
designator Y?, comment 24 MHz
WE-SPXO Simple Packaged Quartz Oscillator, IQXO-540, 24 MHz, 50 ppm, 3.3 V; Manufacturer Part Number: 831056242; Manufacturer: Wurth Elektronik; Frequency Stability: 50 ppm; Output Logic: CMOS; Supply Voltage: 3.3 V; Category: Oscillators; Match Code: WE-SPXO; ComponentLink1Description: Website Link; ComponentLink1URL: https://www.we-online.com/redexpert/article/831056242?ad; ComponentLink2Description: Datasheet Link; ComponentLink2URL: https://www.we-online.com/redexpert/spec/831056242?ad; Mount: Surface Mount; Min Operating Temperature: -40 °C; Max Operating Temperature: 85 °C; Packaging: Tape and Reel; Case/Size Code: IQXO-540; Length: 2 mm; Width: 1.6 mm; Height: 0.8 mm; Application: Processor, USB, Bluetooth; Frequency: 24 MHz
footprint WE-SPXO_IQXO-540
pins: 1 Enable, 2 GND, 3 Output, 4 +Vs

## 831056243
designator Y?, comment 24.576 MHz
WE-SPXO Simple Packaged Quartz Oscillator, IQXO-540, 24.576 MHz, 50 ppm, 3.3 V; Manufacturer Part Number: 831056243; Manufacturer: Wurth Elektronik; Frequency Stability: 50 ppm; Output Logic: CMOS; Supply Voltage: 3.3 V; Category: Oscillators; Match Code: WE-SPXO; ComponentLink1Description: Website Link; ComponentLink1URL: https://www.we-online.com/redexpert/article/831056243?ad; ComponentLink2Description: Datasheet Link; ComponentLink2URL: https://www.we-online.com/redexpert/spec/831056243?ad; Mount: Surface Mount; Min Operating Temperature: -40 °C; Max Operating Temperature: 85 °C; Packaging: Tape and Reel; Case/Size Code: IQXO-540; Length: 2 mm; Width: 1.6 mm; Height: 0.8 mm; Application: UART, Audio; Frequency: 24.576 MHz
footprint WE-SPXO_IQXO-540
pins: 1 Enable, 2 GND, 3 Output, 4 +Vs

## 831056244
designator Y?, comment 25 MHz
WE-SPXO Simple Packaged Quartz Oscillator, IQXO-540, 25 MHz, 50 ppm, 3.3 V; Manufacturer Part Number: 831056244; Manufacturer: Wurth Elektronik; Frequency Stability: 50 ppm; Output Logic: CMOS; Supply Voltage: 3.3 V; Category: Oscillators; Match Code: WE-SPXO; ComponentLink1Description: Website Link; ComponentLink1URL: https://www.we-online.com/redexpert/article/831056244?ad; ComponentLink2Description: Datasheet Link; ComponentLink2URL: https://www.we-online.com/redexpert/spec/831056244?ad; Mount: Surface Mount; Min Operating Temperature: -40 °C; Max Operating Temperature: 85 °C; Packaging: Tape and Reel; Case/Size Code: IQXO-540; Length: 2 mm; Width: 1.6 mm; Height: 0.8 mm; Application: Processor, USB, 3G/4G/5G, Ethernet, Small Cell, PHY, PCI Express; Frequency: 25 MHz
footprint WE-SPXO_IQXO-540
pins: 1 Enable, 2 GND, 3 Output, 4 +Vs

## 831056245
designator Y?, comment 26 MHz
WE-SPXO Simple Packaged Quartz Oscillator, IQXO-540, 26 MHz, 50 ppm, 3.3 V; Manufacturer Part Number: 831056245; Manufacturer: Wurth Elektronik; Frequency Stability: 50 ppm; Output Logic: CMOS; Supply Voltage: 3.3 V; Category: Oscillators; Match Code: WE-SPXO; ComponentLink1Description: Website Link; ComponentLink1URL: https://www.we-online.com/redexpert/article/831056245?ad; ComponentLink2Description: Datasheet Link; ComponentLink2URL: https://www.we-online.com/redexpert/spec/831056245?ad; Mount: Surface Mount; Min Operating Temperature: -40 °C; Max Operating Temperature: 85 °C; Packaging: Tape and Reel; Case/Size Code: IQXO-540; Length: 2 mm; Width: 1.6 mm; Height: 0.8 mm; Application: CAN, Bluetooth, GPS, Small Cell; Frequency: 26 MHz
footprint WE-SPXO_IQXO-540
pins: 1 Enable, 2 GND, 3 Output, 4 +Vs

## 831056246
designator Y?, comment 27 MHz
WE-SPXO Simple Packaged Quartz Oscillator, IQXO-540, 27 MHz, 50 ppm, 3.3 V; Manufacturer Part Number: 831056246; Manufacturer: Wurth Elektronik; Frequency Stability: 50 ppm; Output Logic: CMOS; Supply Voltage: 3.3 V; Category: Oscillators; Match Code: WE-SPXO; ComponentLink1Description: Website Link; ComponentLink1URL: https://www.we-online.com/redexpert/article/831056246?ad; ComponentLink2Description: Datasheet Link; ComponentLink2URL: https://www.we-online.com/redexpert/spec/831056246?ad; Mount: Surface Mount; Min Operating Temperature: -40 °C; Max Operating Temperature: 85 °C; Packaging: Tape and Reel; Case/Size Code: IQXO-540; Length: 2 mm; Width: 1.6 mm; Height: 0.8 mm; Application: Processor; Frequency: 27 MHz
footprint WE-SPXO_IQXO-540
pins: 1 Enable, 2 GND, 3 Output, 4 +Vs

## 831056247
designator Y?, comment 40 MHz
WE-SPXO Simple Packaged Quartz Oscillator, IQXO-540, 40 MHz, 50 ppm, 3.3 V; Manufacturer Part Number: 831056247; Manufacturer: Wurth Elektronik; Frequency Stability: 50 ppm; Output Logic: CMOS; Supply Voltage: 3.3 V; Category: Oscillators; Match Code: WE-SPXO; ComponentLink1Description: Website Link; ComponentLink1URL: https://www.we-online.com/redexpert/article/831056247?ad; ComponentLink2Description: Datasheet Link; ComponentLink2URL: https://www.we-online.com/redexpert/spec/831056247?ad; Mount: Surface Mount; Min Operating Temperature: -40 °C; Max Operating Temperature: 85 °C; Packaging: Tape and Reel; Case/Size Code: IQXO-540; Length: 2 mm; Width: 1.6 mm; Height: 0.8 mm; Application: Processor, USB, 3G/4G/5G, CAN, Wi-Fi; Frequency: 40 MHz
footprint WE-SPXO_IQXO-540
pins: 1 Enable, 2 GND, 3 Output, 4 +Vs

## 831056248
designator Y?, comment 48 MHz
WE-SPXO Simple Packaged Quartz Oscillator, IQXO-540, 48 MHz, 50 ppm, 3.3 V; Manufacturer Part Number: 831056248; Manufacturer: Wurth Elektronik; Frequency Stability: 50 ppm; Output Logic: CMOS; Supply Voltage: 3.3 V; Category: Oscillators; Match Code: WE-SPXO; ComponentLink1Description: Website Link; ComponentLink1URL: https://www.we-online.com/redexpert/article/831056248?ad; ComponentLink2Description: Datasheet Link; ComponentLink2URL: https://www.we-online.com/redexpert/spec/831056248?ad; Mount: Surface Mount; Min Operating Temperature: -40 °C; Max Operating Temperature: 85 °C; Packaging: Tape and Reel; Case/Size Code: IQXO-540; Length: 2 mm; Width: 1.6 mm; Height: 0.8 mm; Application: Processor, USB, Wi-Fi; Frequency: 48 MHz
footprint WE-SPXO_IQXO-540
pins: 1 Enable, 2 GND, 3 Output, 4 +Vs

## 831056249
designator Y?, comment 50 MHz
WE-SPXO Simple Packaged Quartz Oscillator, IQXO-540, 50 MHz, 50 ppm, 3.3 V; Manufacturer Part Number: 831056249; Manufacturer: Wurth Elektronik; Frequency Stability: 50 ppm; Output Logic: CMOS; Supply Voltage: 3.3 V; Category: Oscillators; Match Code: WE-SPXO; ComponentLink1Description: Website Link; ComponentLink1URL: https://www.we-online.com/redexpert/article/831056249?ad; ComponentLink2Description: Datasheet Link; ComponentLink2URL: https://www.we-online.com/redexpert/spec/831056249?ad; Mount: Surface Mount; Min Operating Temperature: -40 °C; Max Operating Temperature: 85 °C; Packaging: Tape and Reel; Case/Size Code: IQXO-540; Length: 2 mm; Width: 1.6 mm; Height: 0.8 mm; Application: Processor, Ethernet, PCI Express, PHY; Frequency: 50 MHz
footprint WE-SPXO_IQXO-540
pins: 1 Enable, 2 GND, 3 Output, 4 +Vs

## 831056262
designator Y?, comment 12 MHz
WE-SPXO Simple Packaged Quartz Oscillator, IQXO-794, 12 MHz, 50 ppm, 1.8 V; Manufacturer Part Number: 831056262; Manufacturer: Wurth Elektronik; Frequency Stability: 50 ppm; Output Logic: CMOS; Supply Voltage: 1.8 V; Category: Oscillators; Match Code: WE-SPXO; ComponentLink1Description: Website Link; ComponentLink1URL: https://www.we-online.com/redexpert/article/831056262?ad; ComponentLink2Description: Datasheet Link; ComponentLink2URL: https://www.we-online.com/redexpert/spec/831056262?ad; Mount: Surface Mount; Min Operating Temperature: -40 °C; Max Operating Temperature: 85 °C; Packaging: Tape and Reel; Case/Size Code: IQXO-794; Length: 2.5 mm; Width: 2 mm; Height: 1 mm; Application: Processor, USB, CAN; Frequency: 12 MHz
footprint WE-SPXO_IQXO-794
pins: 1 Enable, 2 GND, 3 Output, 4 +Vs

## 831056263
designator Y?, comment 13 MHz
WE-SPXO Simple Packaged Quartz Oscillator, IQXO-794, 13 MHz, 50 ppm, 1.8 V; Manufacturer Part Number: 831056263; Manufacturer: Wurth Elektronik; Frequency Stability: 50 ppm; Output Logic: CMOS; Supply Voltage: 1.8 V; Category: Oscillators; Match Code: WE-SPXO; ComponentLink1Description: Website Link; ComponentLink1URL: https://www.we-online.com/redexpert/article/831056263?ad; ComponentLink2Description: Datasheet Link; ComponentLink2URL: https://www.we-online.com/redexpert/spec/831056263?ad; Mount: Surface Mount; Min Operating Temperature: -40 °C; Max Operating Temperature: 85 °C; Packaging: Tape and Reel; Case/Size Code: IQXO-794; Length: 2.5 mm; Width: 2 mm; Height: 1 mm; Application: Processor; Frequency: 13 MHz
footprint WE-SPXO_IQXO-794
pins: 1 Enable, 2 GND, 3 Output, 4 +Vs

## 831056264
designator Y?, comment 19.2 MHz
WE-SPXO Simple Packaged Quartz Oscillator, IQXO-794, 19.2 MHz, 50 ppm, 1.8 V; Manufacturer Part Number: 831056264; Manufacturer: Wurth Elektronik; Frequency Stability: 50 ppm; Output Logic: CMOS; Supply Voltage: 1.8 V; Category: Oscillators; Match Code: WE-SPXO; ComponentLink1Description: Website Link; ComponentLink1URL: https://www.we-online.com/redexpert/article/831056264?ad; ComponentLink2Description: Datasheet Link; ComponentLink2URL: https://www.we-online.com/redexpert/spec/831056264?ad; Mount: Surface Mount; Min Operating Temperature: -40 °C; Max Operating Temperature: 85 °C; Packaging: Tape and Reel; Case/Size Code: IQXO-794; Length: 2.5 mm; Width: 2 mm; Height: 1 mm; Application: UART, 3G/4G/5G, Small Cell; Frequency: 19.2 MHz
footprint WE-SPXO_IQXO-794
pins: 1 Enable, 2 GND, 3 Output, 4 +Vs

## 831056266
designator Y?, comment 20 MHz
WE-SPXO Simple Packaged Quartz Oscillator, IQXO-794, 20 MHz, 50 ppm, 1.8 V; Manufacturer Part Number: 831056266; Manufacturer: Wurth Elektronik; Frequency Stability: 50 ppm; Output Logic: CMOS; Supply Voltage: 1.8 V; Category: Oscillators; Match Code: WE-SPXO; ComponentLink1Description: Website Link; ComponentLink1URL: https://www.we-online.com/redexpert/article/831056266?ad; ComponentLink2Description: Datasheet Link; ComponentLink2URL: https://www.we-online.com/redexpert/spec/831056266?ad; Mount: Surface Mount; Min Operating Temperature: -40 °C; Max Operating Temperature: 85 °C; Packaging: Tape and Reel; Case/Size Code: IQXO-794; Length: 2.5 mm; Width: 2 mm; Height: 1 mm; Application: Processor, CAN, USB, Ethernet, Wi-Fi; Frequency: 20 MHz
footprint WE-SPXO_IQXO-794
pins: 1 Enable, 2 GND, 3 Output, 4 +Vs

## 831056267
designator Y?, comment 24 MHz
WE-SPXO Simple Packaged Quartz Oscillator, IQXO-794, 24 MHz, 50 ppm, 1.8 V; Manufacturer Part Number: 831056267; Manufacturer: Wurth Elektronik; Frequency Stability: 50 ppm; Output Logic: CMOS; Supply Voltage: 1.8 V; Category: Oscillators; Match Code: WE-SPXO; ComponentLink1Description: Website Link; ComponentLink1URL: https://www.we-online.com/redexpert/article/831056267?ad; ComponentLink2Description: Datasheet Link; ComponentLink2URL: https://www.we-online.com/redexpert/spec/831056267?ad; Mount: Surface Mount; Min Operating Temperature: -40 °C; Max Operating Temperature: 85 °C; Packaging: Tape and Reel; Case/Size Code: IQXO-794; Length: 2.5 mm; Width: 2 mm; Height: 1 mm; Application: Processor, USB, Bluetooth; Frequency: 24 MHz
footprint WE-SPXO_IQXO-794
pins: 1 Enable, 2 GND, 3 Output, 4 +Vs

## 831056268
designator Y?, comment 24.576 MHz
WE-SPXO Simple Packaged Quartz Oscillator, IQXO-794, 24.576 MHz, 50 ppm, 1.8 V; Manufacturer Part Number: 831056268; Manufacturer: Wurth Elektronik; Frequency Stability: 50 ppm; Output Logic: CMOS; Supply Voltage: 1.8 V; Category: Oscillators; Match Code: WE-SPXO; ComponentLink1Description: Website Link; ComponentLink1URL: https://www.we-online.com/redexpert/article/831056268?ad; ComponentLink2Description: Datasheet Link; ComponentLink2URL: https://www.we-online.com/redexpert/spec/831056268?ad; Mount: Surface Mount; Min Operating Temperature: -40 °C; Max Operating Temperature: 85 °C; Packaging: Tape and Reel; Case/Size Code: IQXO-794; Length: 2.5 mm; Width: 2 mm; Height: 1 mm; Application: UART, Audio; Frequency: 24.576 MHz
footprint WE-SPXO_IQXO-794
pins: 1 Enable, 2 GND, 3 Output, 4 +Vs

## 831056269
designator Y?, comment 25 MHz
WE-SPXO Simple Packaged Quartz Oscillator, IQXO-794, 25 MHz, 50 ppm, 1.8 V; Manufacturer Part Number: 831056269; Manufacturer: Wurth Elektronik; Frequency Stability: 50 ppm; Output Logic: CMOS; Supply Voltage: 1.8 V; Category: Oscillators; Match Code: WE-SPXO; ComponentLink1Description: Website Link; ComponentLink1URL: https://www.we-online.com/redexpert/article/831056269?ad; ComponentLink2Description: Datasheet Link; ComponentLink2URL: https://www.we-online.com/redexpert/spec/831056269?ad; Mount: Surface Mount; Min Operating Temperature: -40 °C; Max Operating Temperature: 85 °C; Packaging: Tape and Reel; Case/Size Code: IQXO-794; Length: 2.5 mm; Width: 2 mm; Height: 1 mm; Application: Processor, USB, 3G/4G/5G, Ethernet, Small Cell, PHY, PCI Express; Frequency: 25 MHz
footprint WE-SPXO_IQXO-794
pins: 1 Enable, 2 GND, 3 Output, 4 +Vs

## 831056270
designator Y?, comment 26 MHz
WE-SPXO Simple Packaged Quartz Oscillator, IQXO-794, 26 MHz, 50 ppm, 1.8 V; Manufacturer Part Number: 831056270; Manufacturer: Wurth Elektronik; Frequency Stability: 50 ppm; Output Logic: CMOS; Supply Voltage: 1.8 V; Category: Oscillators; Match Code: WE-SPXO; ComponentLink1Description: Website Link; ComponentLink1URL: https://www.we-online.com/redexpert/article/831056270?ad; ComponentLink2Description: Datasheet Link; ComponentLink2URL: https://www.we-online.com/redexpert/spec/831056270?ad; Mount: Surface Mount; Min Operating Temperature: -40 °C; Max Operating Temperature: 85 °C; Packaging: Tape and Reel; Case/Size Code: IQXO-794; Length: 2.5 mm; Width: 2 mm; Height: 1 mm; Application: CAN, Bluetooth, GPS, Small Cell; Frequency: 26 MHz
footprint WE-SPXO_IQXO-794
pins: 1 Enable, 2 GND, 3 Output, 4 +Vs

## 831056271
designator Y?, comment 27 MHz
WE-SPXO Simple Packaged Quartz Oscillator, IQXO-794, 27 MHz, 50 ppm, 1.8 V; Manufacturer Part Number: 831056271; Manufacturer: Wurth Elektronik; Frequency Stability: 50 ppm; Output Logic: CMOS; Supply Voltage: 1.8 V; Category: Oscillators; Match Code: WE-SPXO; ComponentLink1Description: Website Link; ComponentLink1URL: https://www.we-online.com/redexpert/article/831056271?ad; ComponentLink2Description: Datasheet Link; ComponentLink2URL: https://www.we-online.com/redexpert/spec/831056271?ad; Mount: Surface Mount; Min Operating Temperature: -40 °C; Max Operating Temperature: 85 °C; Packaging: Tape and Reel; Case/Size Code: IQXO-794; Length: 2.5 mm; Width: 2 mm; Height: 1 mm; Application: Processor; Frequency: 27 MHz
footprint WE-SPXO_IQXO-794
pins: 1 Enable, 2 GND, 3 Output, 4 +Vs